# Altium schematic symbol library SH1.0.SchLib: 9 symbols
Pins are listed as number, name and electrical type; pins without a type are passive.

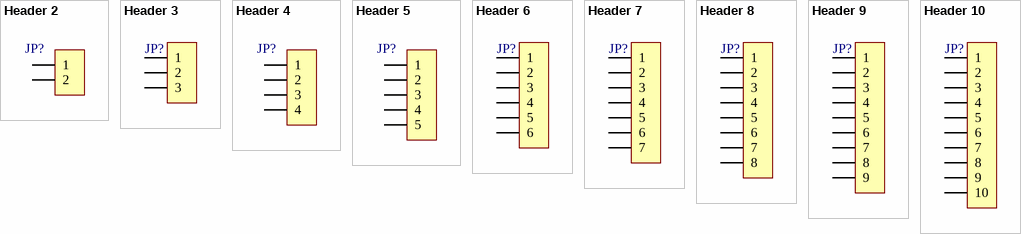
[diagram p0: symbols Header 2 to Header 10]

## Header 2
designator JP?, comment SH1.0-2P  (value not drawn)
2P接插件; 厂商: JST; BOM名称: 2P接插件
pins: 1, 2

## Header 3
designator JP?, comment SH1.0-3P  (value not drawn)
3P接插件; 厂商: JST; BOM名称: 3P接插件
pins: 1, 2, 3

## Header 4
designator JP?, comment SH1.0-4P  (value not drawn)
4P接插件; 厂商: JST; BOM名称: 4P接插件
pins: 1, 2, 3, 4

## Header 5
designator JP?, comment SH1.0-5P  (value not drawn)
5P接插件; 厂商: JST; BOM名称: 5P接插件
pins: 1, 2, 3, 4, 5

## Header 6
designator JP?, comment SH1.0-6P  (value not drawn)
6P接插件; 厂商: JST; BOM名称: 6P接插件
pins: 1, 2, 3, 4, 5, 6

## Header 7
designator JP?, comment SH1.0-7P  (value not drawn)
7P接插件; 厂商: JST; BOM名称: 7P接插件
pins: 1, 2, 3, 4, 5, 6, 7

## Header 8
designator JP?, comment SH1.0-8P  (value not drawn)
8P接插件; 厂商: JST; BOM名称: 8P接插件
pins: 1, 2, 3, 4, 5, 6, 7, 8

## Header 9
designator JP?, comment SH1.0-9P  (value not drawn)
9P接插件; 厂商: JST; BOM名称: 9P接插件
pins: 1, 2, 3, 4, 5, 6, 7, 8, 9

## Header 10
designator JP?, comment SH1.0-10P  (value not drawn)
10P接插件; 厂商: JST; BOM名称: 10P接插件
pins: 1, 2, 3, 4, 5, 6, 7, 8, 9, 10